# Altium footprint library 330_450.PcbLib: 1 footprints
Each footprint in its own frame and in the unit in brackets; x right, y up, seen from the top. Pads: shape width x height; smd on the part's side, far side on the other; paste and mask are expansions set on the pad; w line width, h text height; cw(c..) or ccw(c..) is an arc to the next point about the centre after c.
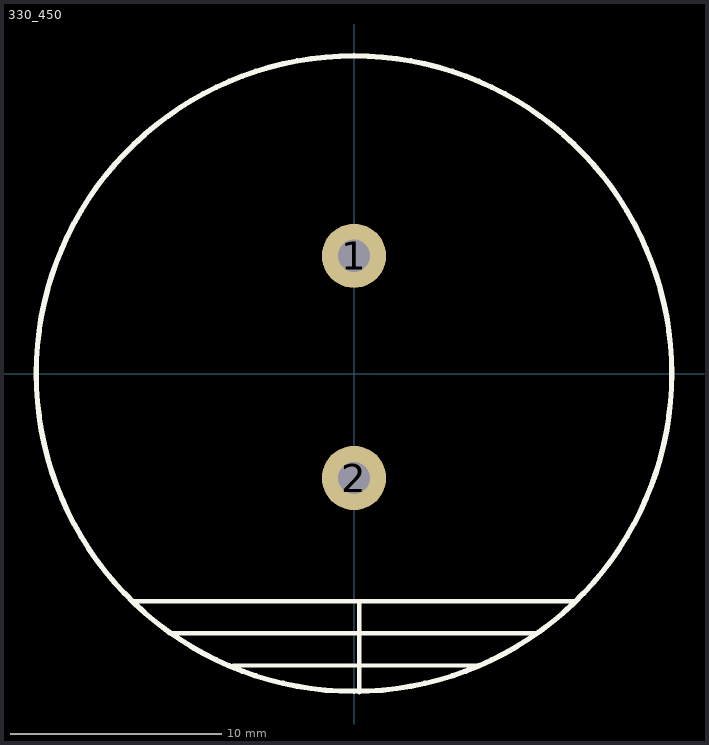
[diagram p0: the footprint, top view; thin cyan lines are the x and y axes]

## 330_450 [mil]
pads (2):
  round 120 hole 60: 1(0,220) 2(0,-195)
Top Overlay:
  circle w10: c0,0 r593.51
  lines w7.87: -415,-425 410,-425 ; -345,-485 340,-485 ; -225,-545 230,-545 ; 10,-595 10,-425
3D body "Yadacon 450V 330uF CD29H.STEP": height 2040.05, standoff -215.85, extent -594.49,-583.43 596.45,609.49